# Altium schematic symbol library con-cypressindustries.SCHLIB: 38 symbols
Pins are listed as number, name and electrical type; pins without a type are passive.

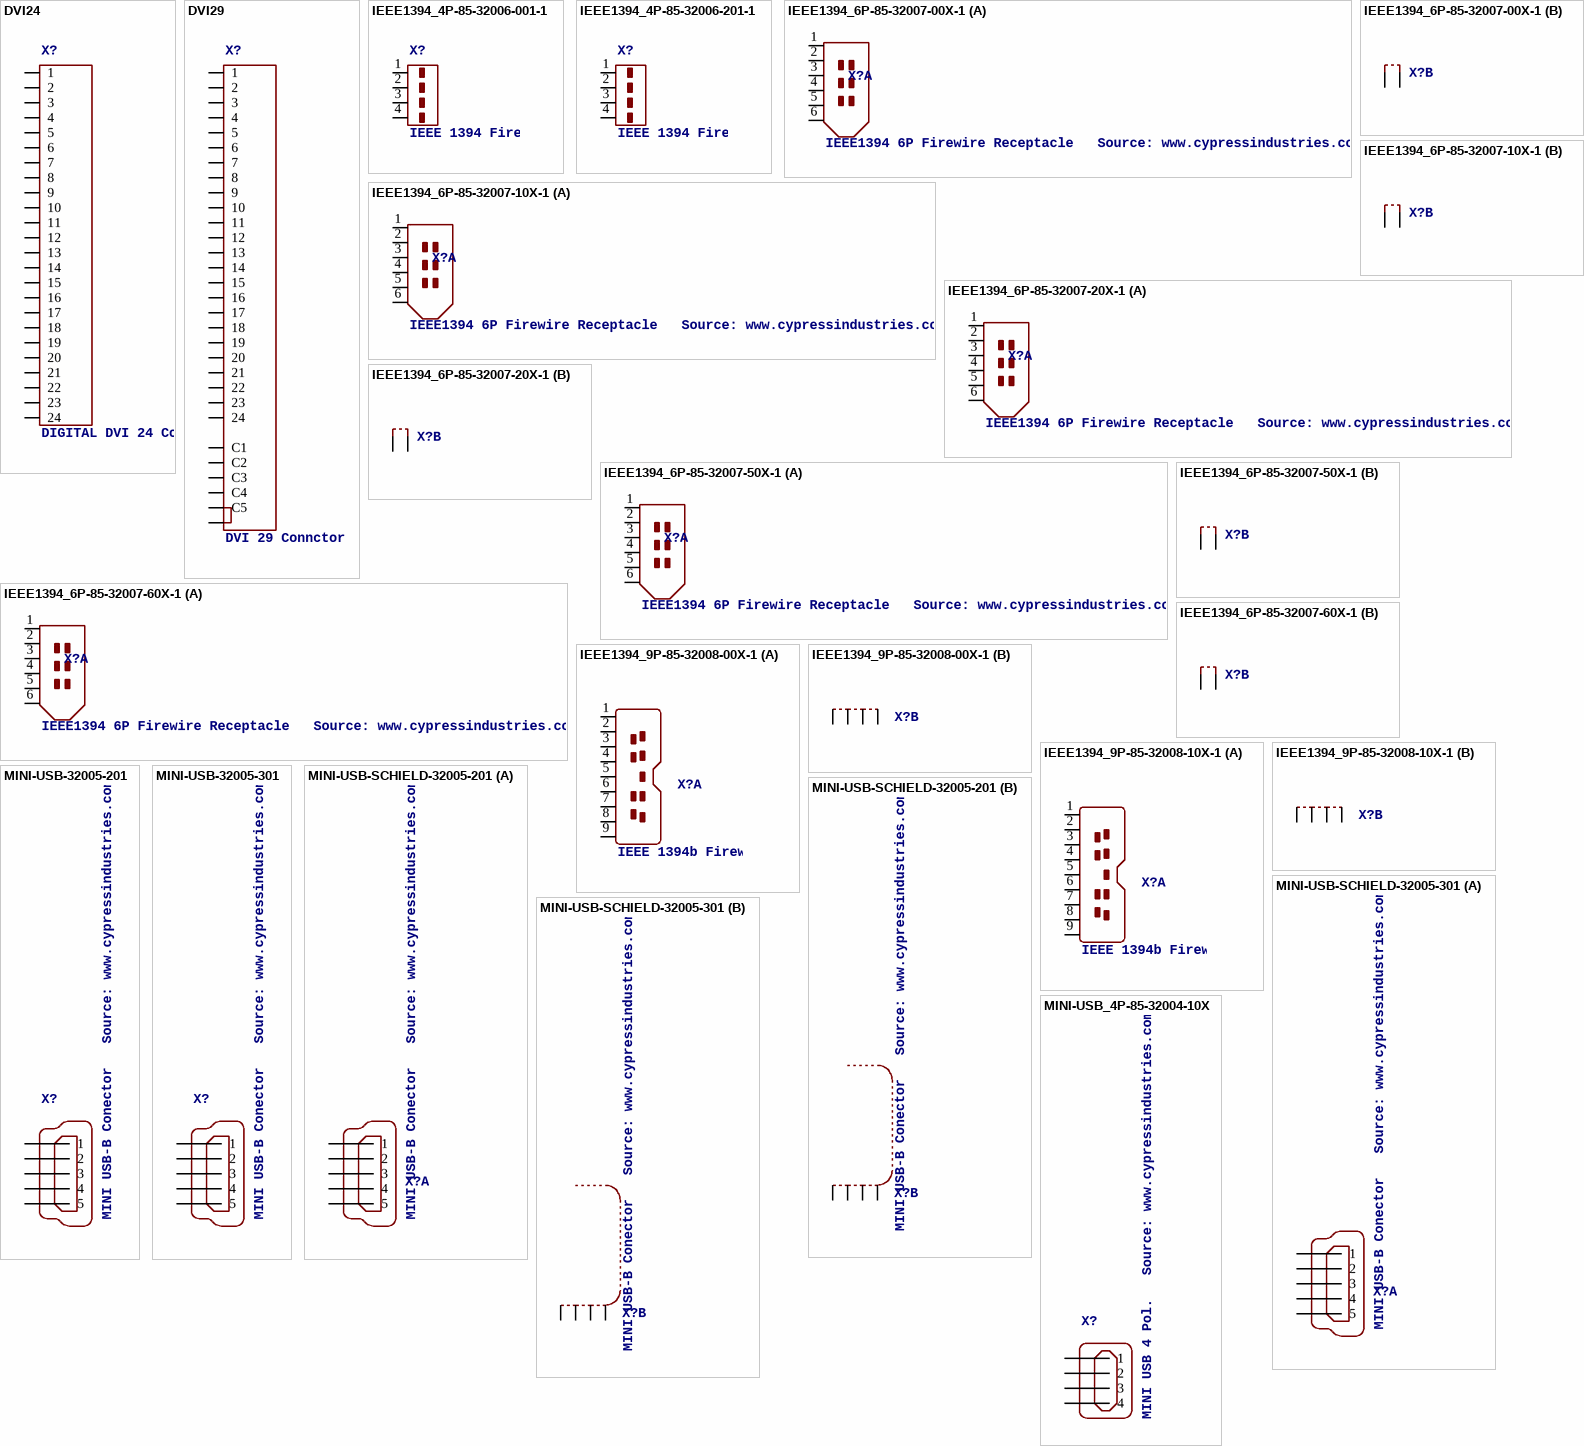
[diagram p0: symbols DVI24 to MINI-USB_4P-85-32004-10X]

## DVI24
designator X?, comment DIGITAL DVI 24 Connctor   Source: http://www.cypressindustries.com/pdf/CCDVI-24DVISD-DA3.pdf
MPN: DVI2425X; OC_FARNELL: unknown; OC_NEWARK: 95K3853
footprint CCDVI-24DVISD-DA3
pins: 1, 2, 3, 4, 5, 6, 7, 8, 9, 10, 11, 12, 13, 14, 15, 16, 17, 18, 19, 20, 21, 22, 23, 24

## DVI29
designator X?, comment DVI 29 Connctor   Source: http://www.cypressindustries.com/pdf/CCDVI-29DVISIR-A-2.pdf
OC_FARNELL: unknown; OC_NEWARK: unknown
footprint CCDVI-29DVISIR-A-2
pins: 1, 2, 3, 4, 5, 6, 7, 8, 9, 10, 11, 12, 13, 14, 15, 16, 17, 18, 19, 20, 21, 22, 23, 24, C1, C2, C3, C4, C5.1 C5, C5.2

## IEEE1394_4P-85-32006-001-1
designator X?, comment IEEE 1394 Firewire 4 pol.>p> Source: www.cypressindustries.com
OC_FARNELL: unknown; OC_NEWARK: unknown
footprint 85-32006-001-1
pins: 1, 2, 3, 4

## IEEE1394_4P-85-32006-201-1
designator X?, comment IEEE 1394 Firewire 4 pol.>p> Source: www.cypressindustries.com
OC_FARNELL: unknown; OC_NEWARK: unknown
footprint 85-32006-201-1
pins: 1, 2, 3, 4

## IEEE1394_6P-85-32007-00X-1
designator X?, comment IEEE1394 6P Firewire Receptacle   Source: www.cypressindustries.com
OC_FARNELL: unknown; OC_NEWARK: unknown
footprint 85-32007-00X-1
part A pins: 1, 2, 3, 4, 5, 6
part B pins: M1 S1, M2 S2

## IEEE1394_6P-85-32007-10X-1
designator X?, comment IEEE1394 6P Firewire Receptacle   Source: www.cypressindustries.com
OC_FARNELL: unknown; OC_NEWARK: unknown
footprint 85-32007-10X-1
part A pins: 1, 2, 3, 4, 5, 6
part B pins: M1 S1, M2 S2

## IEEE1394_6P-85-32007-20X-1
designator X?, comment IEEE1394 6P Firewire Receptacle   Source: www.cypressindustries.com
OC_FARNELL: unknown; OC_NEWARK: unknown
footprint 85-32007-20X-1
part A pins: 1, 2, 3, 4, 5, 6
part B pins: M1 S1, M2 S2

## IEEE1394_6P-85-32007-50X-1
designator X?, comment IEEE1394 6P Firewire Receptacle   Source: www.cypressindustries.com
OC_FARNELL: unknown; OC_NEWARK: unknown
footprint 85-32007-50X-1
part A pins: 1, 2, 3, 4, 5, 6
part B pins: M1 S1, M2 S2

## IEEE1394_6P-85-32007-60X-1
designator X?, comment IEEE1394 6P Firewire Receptacle   Source: www.cypressindustries.com
OC_FARNELL: unknown; OC_NEWARK: unknown
footprint 85-32007-60X-1
part A pins: 1, 2, 3, 4, 5, 6
part B pins: M1 S1, M2 S2

## IEEE1394_9P-85-32008-00X-1
designator X?, comment IEEE 1394b Firewire Connector Bilingual / Beta   Source: www.cypressindustries.com
OC_FARNELL: unknown; OC_NEWARK: unknown
footprint 85-32008-00X-1
part A pins: 1, 2, 3, 4, 5, 6, 7, 8, 9
part B pins: M1 S1, M2 S2, M3 S3, M4 S4

## IEEE1394_9P-85-32008-10X-1
designator X?, comment IEEE 1394b Firewire Connector Bilingual / Beta   Source: www.cypressindustries.com
OC_FARNELL: unknown; OC_NEWARK: unknown
footprint 85-32008-10X-1
part A pins: 1, 2, 3, 4, 5, 6, 7, 8, 9
part B pins: M1 S1, M2 S2, M3 S3, M4 S4

## MINI-USB-32005-201
designator X?, comment MINI USB-B Conector   Source: www.cypressindustries.com
OC_FARNELL: unknown; OC_NEWARK: unknown
footprint 32005-201
pins: 1, 2, 3, 4, 5

## MINI-USB-32005-301
designator X?, comment MINI USB-B Conector   Source: www.cypressindustries.com
OC_FARNELL: unknown; OC_NEWARK: unknown
footprint 32005-301
pins: 1, 2, 3, 4, 5

## MINI-USB-SCHIELD-32005-201
designator X?, comment MINI USB-B Conector   Source: www.cypressindustries.com
OC_FARNELL: unknown; OC_NEWARK: unknown
footprint 32005-201
part A pins: 1, 2, 3, 4, 5
part B pins: M1 S1, M2 S2, M3 S3, M4 S4

## MINI-USB-SCHIELD-32005-301
designator X?, comment MINI USB-B Conector   Source: www.cypressindustries.com
OC_FARNELL: unknown; OC_NEWARK: unknown
footprint 32005-301
part A pins: 1, 2, 3, 4, 5
part B pins: M1 S1, M2 S2, M3 S3, M4 S4

## MINI-USB_4P-85-32004-10X
designator X?, comment MINI USB 4 Pol.   Source: www.cypressindustries.com
OC_FARNELL: unknown; OC_NEWARK: unknown
footprint 85-32004-10X
pins: 1, 2, 3, 4

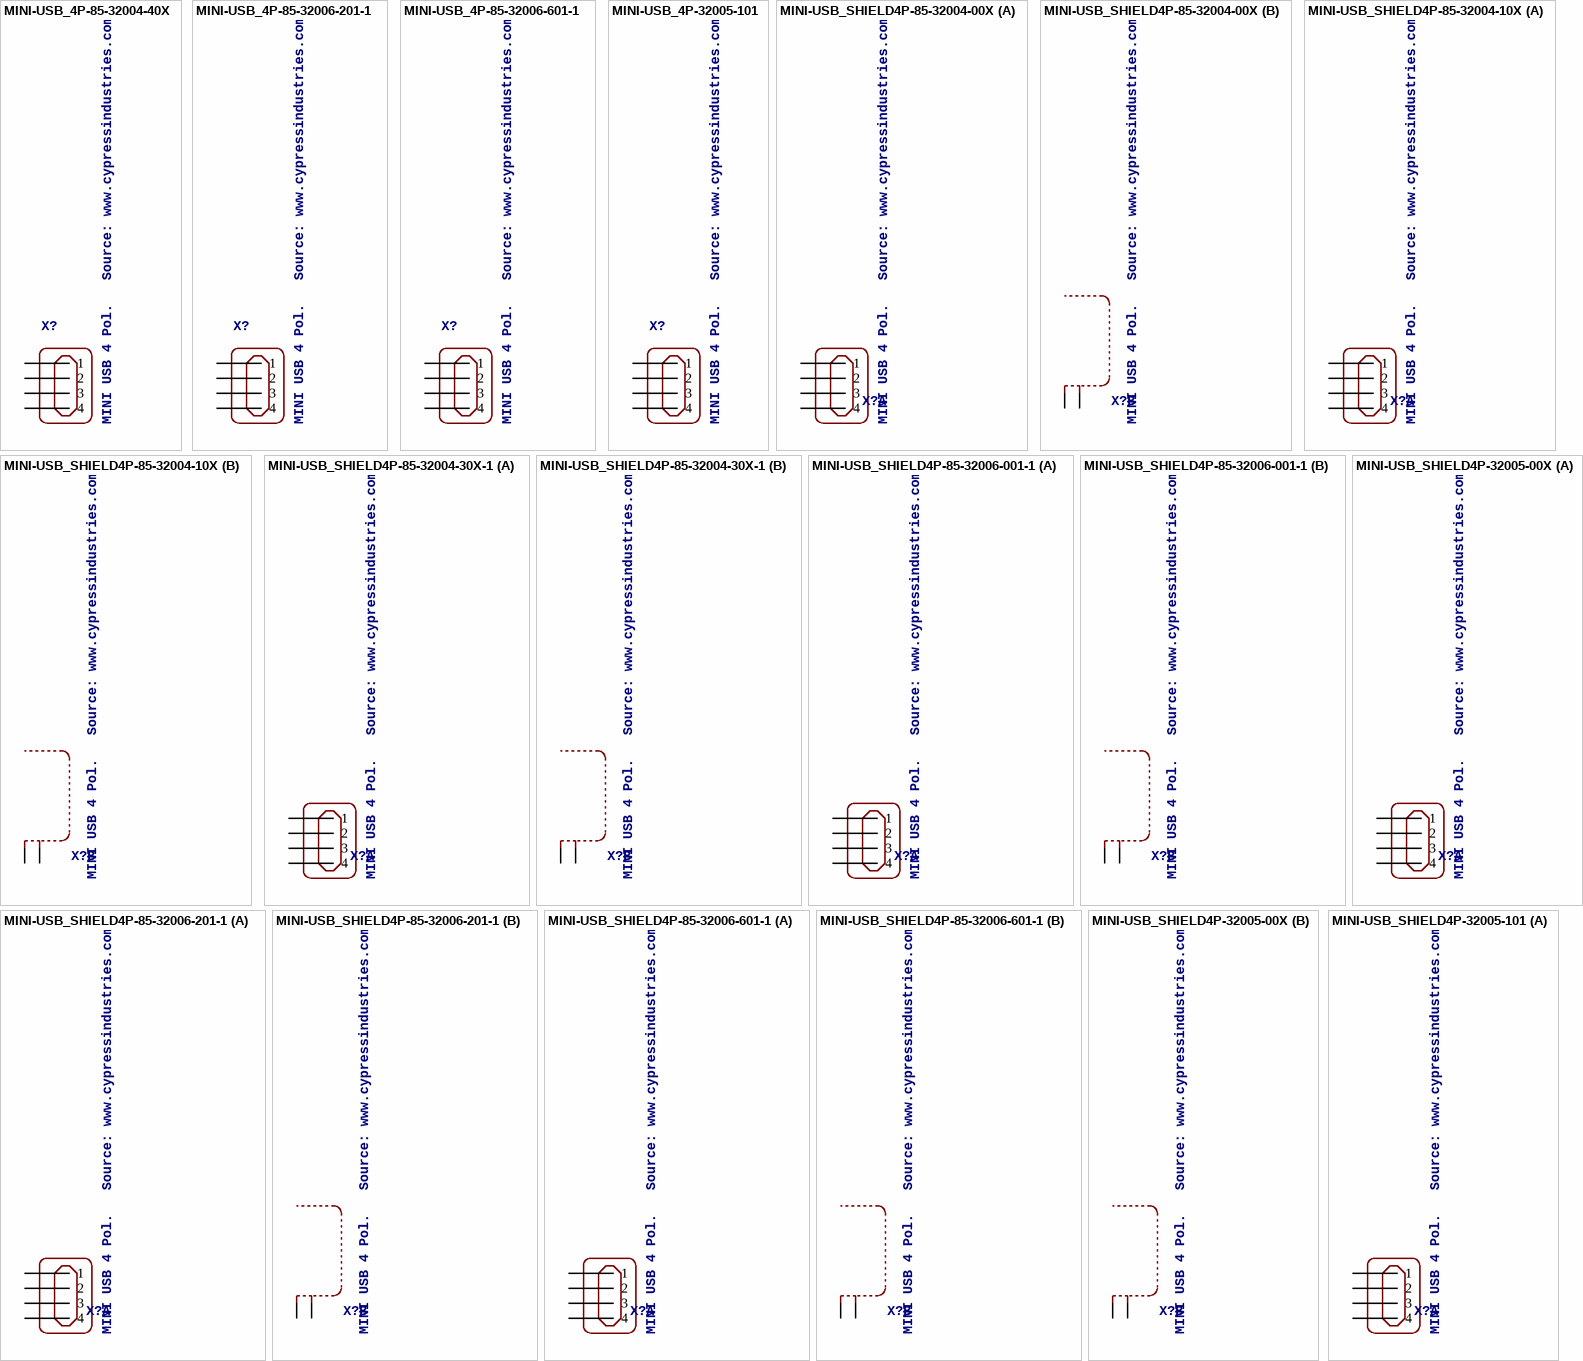
[diagram p1: symbols MINI-USB_4P-85-32004-40X to MINI-USB_SHIELD4P-32005-101]

## MINI-USB_4P-85-32004-40X
designator X?, comment MINI USB 4 Pol.   Source: www.cypressindustries.com
OC_FARNELL: unknown; OC_NEWARK: unknown
footprint 85-32004-40X
pins: 1, 2, 3, 4

## MINI-USB_4P-85-32006-201-1
designator X?, comment MINI USB 4 Pol.   Source: www.cypressindustries.com
OC_FARNELL: unknown; OC_NEWARK: unknown
footprint 85-32006-201-1
pins: 1, 2, 3, 4

## MINI-USB_4P-85-32006-601-1
designator X?, comment MINI USB 4 Pol.   Source: www.cypressindustries.com
OC_FARNELL: unknown; OC_NEWARK: unknown
footprint 85-32006-601-1
pins: 1, 2, 3, 4

## MINI-USB_4P-32005-101
designator X?, comment MINI USB 4 Pol.   Source: www.cypressindustries.com
OC_FARNELL: unknown; OC_NEWARK: unknown
footprint 32005-101
pins: 1, 2, 3, 4

## MINI-USB_SHIELD4P-85-32004-00X
designator X?, comment MINI USB 4 Pol.   Source: www.cypressindustries.com
OC_FARNELL: unknown; OC_NEWARK: unknown
footprint 85-32004-00X
part A pins: 1, 2, 3, 4
part B pins: M1 S1, M2 S2

## MINI-USB_SHIELD4P-85-32004-10X
designator X?, comment MINI USB 4 Pol.   Source: www.cypressindustries.com
OC_FARNELL: unknown; OC_NEWARK: unknown
footprint 85-32004-10X
part A pins: 1, 2, 3, 4
part B pins: M1 S1, M2 S2

## MINI-USB_SHIELD4P-85-32004-30X-1
designator X?, comment MINI USB 4 Pol.   Source: www.cypressindustries.com
OC_FARNELL: unknown; OC_NEWARK: unknown
footprint 85-32004-30X-1
part A pins: 1, 2, 3, 4
part B pins: M1 S1, M2 S2

## MINI-USB_SHIELD4P-85-32006-001-1
designator X?, comment MINI USB 4 Pol.   Source: www.cypressindustries.com
OC_FARNELL: unknown; OC_NEWARK: unknown
footprint 85-32006-001-1
part A pins: 1, 2, 3, 4
part B pins: M1 S1, M2 S2

## MINI-USB_SHIELD4P-85-32006-201-1
designator X?, comment MINI USB 4 Pol.   Source: www.cypressindustries.com
OC_FARNELL: unknown; OC_NEWARK: unknown
footprint 85-32006-201-1
part A pins: 1, 2, 3, 4
part B pins: M1 S1, M2 S2

## MINI-USB_SHIELD4P-85-32006-601-1
designator X?, comment MINI USB 4 Pol.   Source: www.cypressindustries.com
OC_FARNELL: unknown; OC_NEWARK: unknown
footprint 85-32006-601-1
part A pins: 1, 2, 3, 4
part B pins: M1 S1, M2 S2

## MINI-USB_SHIELD4P-32005-00X
designator X?, comment MINI USB 4 Pol.   Source: www.cypressindustries.com
OC_FARNELL: unknown; OC_NEWARK: unknown
footprint 32005-00X
part A pins: 1, 2, 3, 4
part B pins: M1 S1, M2 S2

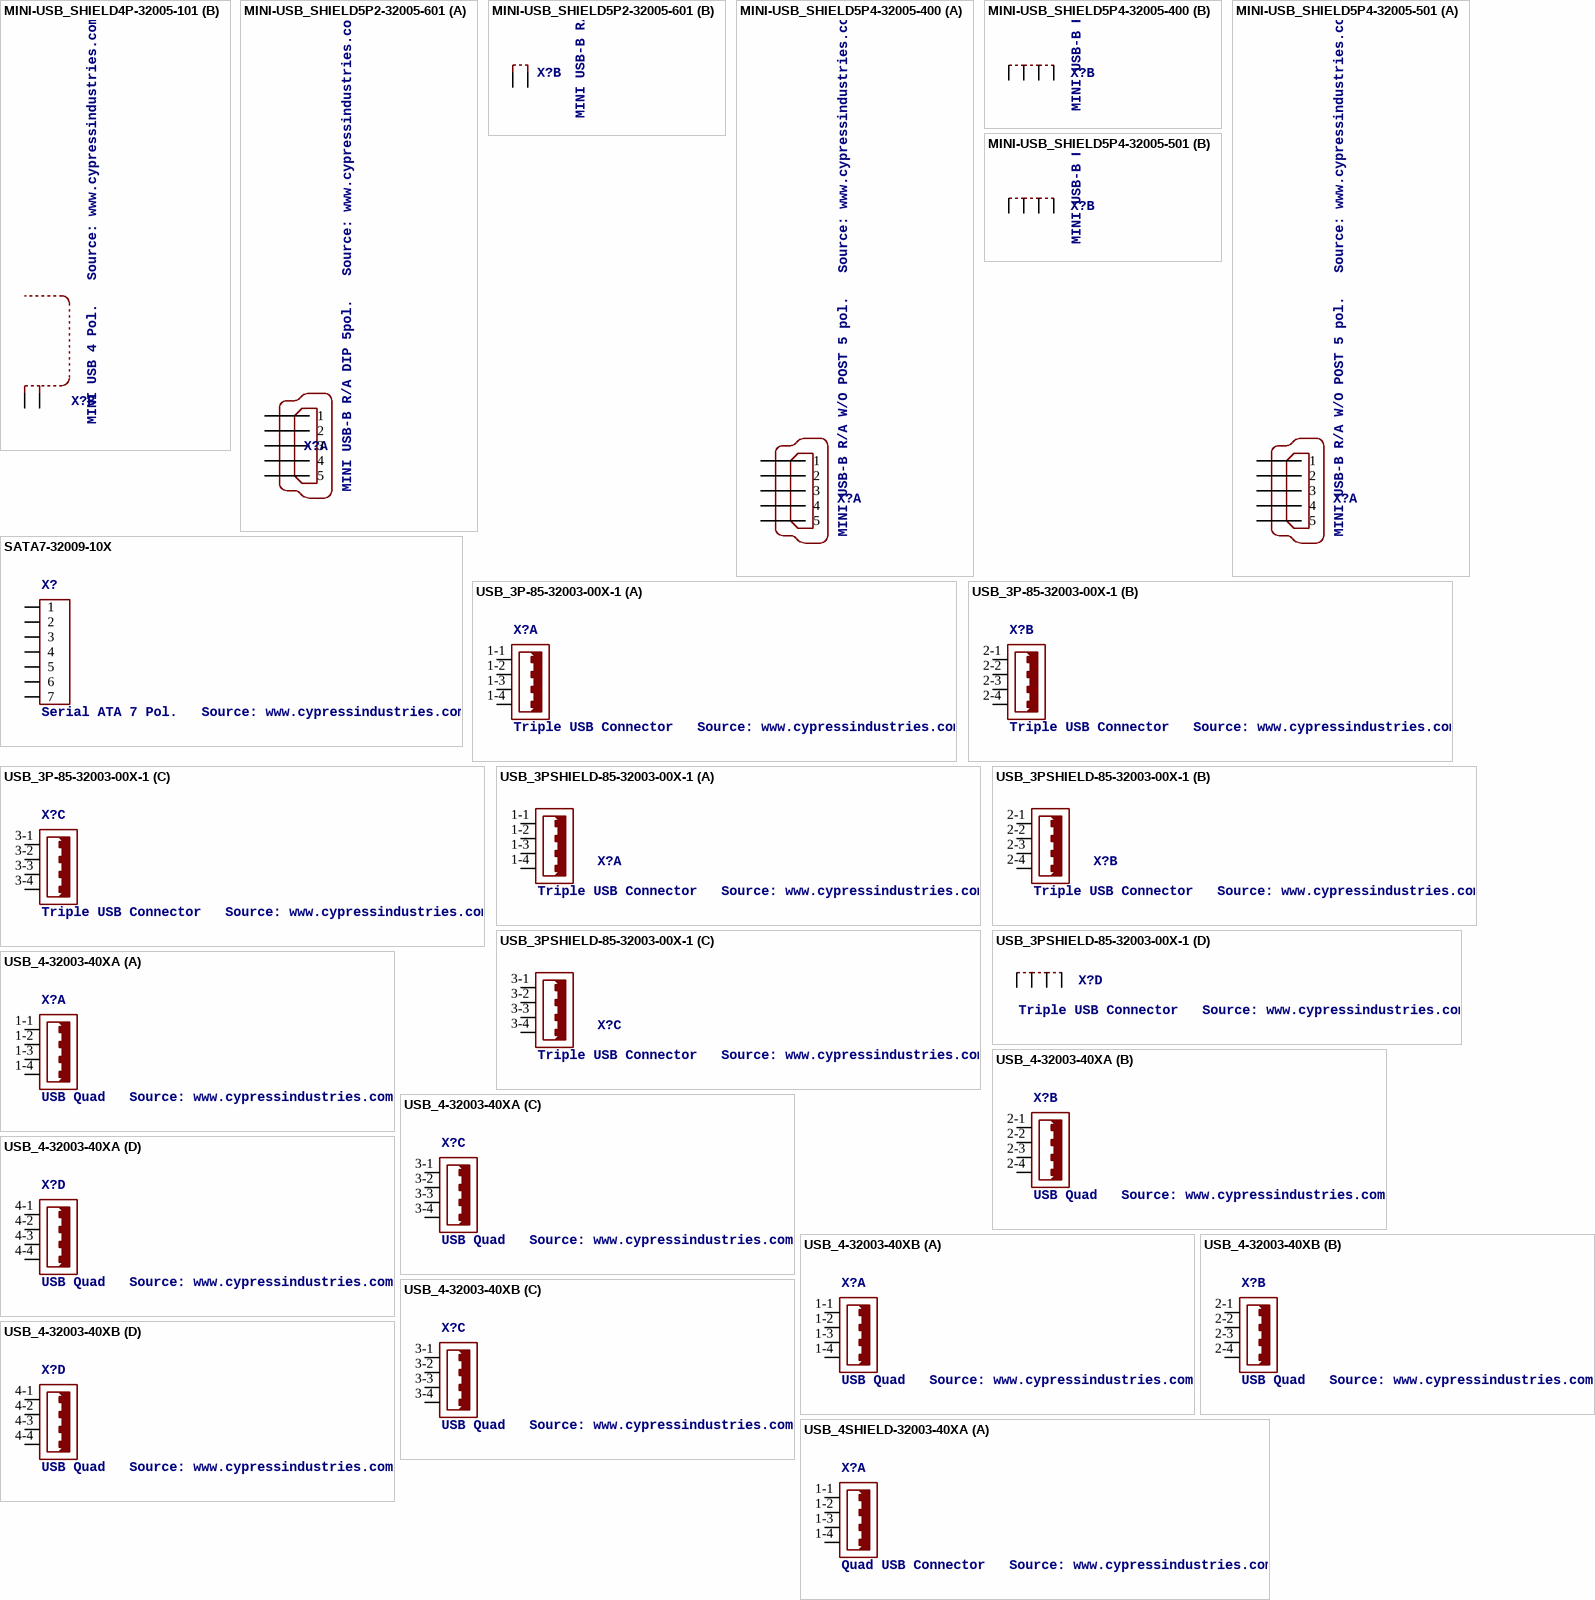
[diagram p2: symbols MINI-USB_SHIELD4P-32005-101 to USB_4SHIELD-32003-40XA]

## MINI-USB_SHIELD4P-32005-101
designator X?, comment MINI USB 4 Pol.   Source: www.cypressindustries.com
OC_FARNELL: unknown; OC_NEWARK: unknown
footprint 32005-101
part A pins: 1, 2, 3, 4
part B pins: M1 S1, M2 S2

## MINI-USB_SHIELD5P2-32005-601
designator X?, comment MINI USB-B R/A DIP 5pol.   Source: www.cypressindustries.com
OC_FARNELL: unknown; OC_NEWARK: unknown
footprint 32005-601
part A pins: 1, 2, 3, 4, 5
part B pins: M1 S1, M2 S2

## MINI-USB_SHIELD5P4-32005-400
designator X?, comment MINI USB-B R/A W/O POST 5 pol.   Source: www.cypressindustries.com
OC_FARNELL: unknown; OC_NEWARK: unknown
footprint 32005-400
part A pins: 1, 2, 3, 4, 5
part B pins: M1 S1, M2 S2, M3 S3, M4 S4

## MINI-USB_SHIELD5P4-32005-501
designator X?, comment MINI USB-B R/A W/O POST 5 pol.   Source: www.cypressindustries.com
OC_FARNELL: unknown; OC_NEWARK: unknown
footprint 32005-501
part A pins: 1, 2, 3, 4, 5
part B pins: M1 S1, M2 S2, M3 S3, M4 S4

## SATA7-32009-10X
designator X?, comment Serial ATA 7 Pol.   Source: www.cypressindustries.com
OC_FARNELL: unknown; OC_NEWARK: unknown
footprint CCATA_32009_10X
pins: 1, 2, 3, 4, 5, 6, 7

## USB_3P-85-32003-00X-1
designator X?, comment Triple USB Connector   Source: www.cypressindustries.com
OC_FARNELL: unknown; OC_NEWARK: unknown
footprint 85-32003-00X-1
part A pins: 1-1 1, 1-2 2, 1-3 3, 1-4 4
part B pins: 2-1 1, 2-2 2, 2-3 3, 2-4 4
part C pins: 3-1 1, 3-2 2, 3-3 3, 3-4 4

## USB_3PSHIELD-85-32003-00X-1
designator X?, comment Triple USB Connector   Source: www.cypressindustries.com
OC_FARNELL: unknown; OC_NEWARK: unknown
footprint 85-32003-00X-1
part A pins: 1-1 1, 1-2 2, 1-3 3, 1-4 4
part B pins: 2-1 1, 2-2 2, 2-3 3, 2-4 4
part C pins: 3-1 1, 3-2 2, 3-3 3, 3-4 4
part D pins: M1 S1, M2 S2, M3 S3, M4 S4

## USB_4-32003-40XA
designator X?, comment USB Quad   Source: www.cypressindustries.com
OC_FARNELL: unknown; OC_NEWARK: unknown
footprint 32003-40XA
part A pins: 1-1 1, 1-2 2, 1-3 3, 1-4 4
part B pins: 2-1 1, 2-2 2, 2-3 3, 2-4 4
part C pins: 3-1 1, 3-2 2, 3-3 3, 3-4 4
part D pins: 4-1 1, 4-2 2, 4-3 3, 4-4 4

## USB_4-32003-40XB
designator X?, comment USB Quad   Source: www.cypressindustries.com
OC_FARNELL: unknown; OC_NEWARK: unknown
footprint 32003-40XB
part A pins: 1-1 1, 1-2 2, 1-3 3, 1-4 4
part B pins: 2-1 1, 2-2 2, 2-3 3, 2-4 4
part C pins: 3-1 1, 3-2 2, 3-3 3, 3-4 4
part D pins: 4-1 1, 4-2 2, 4-3 3, 4-4 4

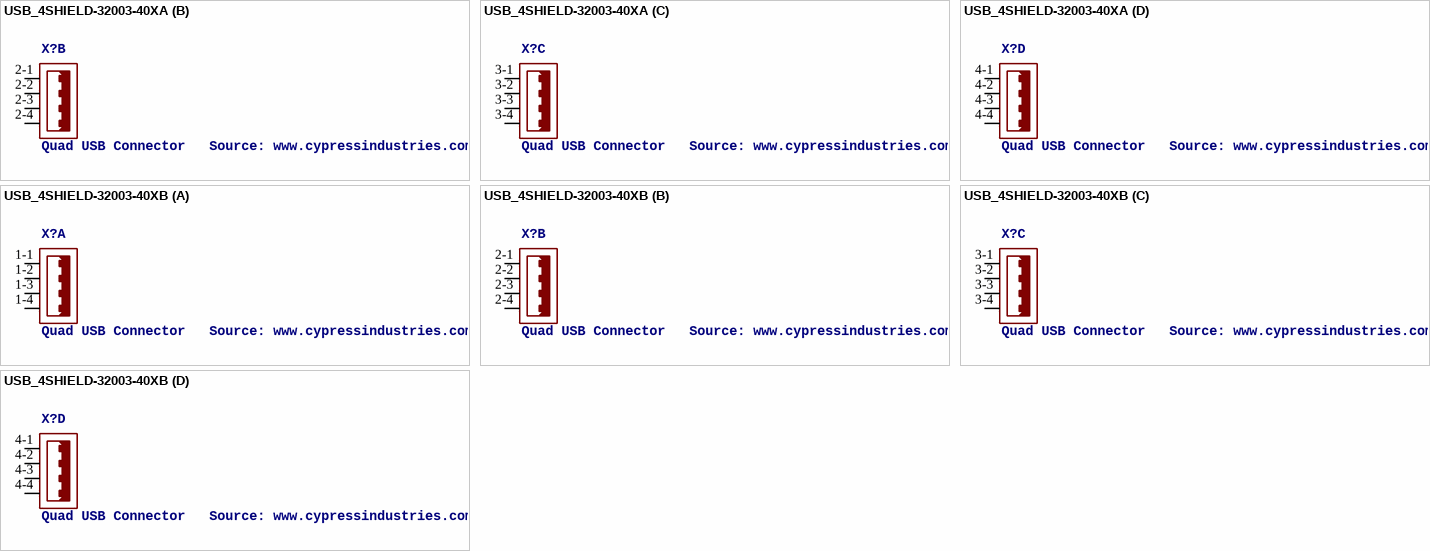
[diagram p3: symbols USB_4SHIELD-32003-40XA to USB_4SHIELD-32003-40XB]

## USB_4SHIELD-32003-40XA
designator X?, comment Quad USB Connector   Source: www.cypressindustries.com
OC_FARNELL: unknown; OC_NEWARK: unknown
footprint 32003-40XA
part A pins: 1-1 1, 1-2 2, 1-3 3, 1-4 4
part B pins: 2-1 1, 2-2 2, 2-3 3, 2-4 4
part C pins: 3-1 1, 3-2 2, 3-3 3, 3-4 4
part D pins: 4-1 1, 4-2 2, 4-3 3, 4-4 4

## USB_4SHIELD-32003-40XB
designator X?, comment Quad USB Connector   Source: www.cypressindustries.com
OC_FARNELL: unknown; OC_NEWARK: unknown
footprint 32003-40XB
part A pins: 1-1 1, 1-2 2, 1-3 3, 1-4 4
part B pins: 2-1 1, 2-2 2, 2-3 3, 2-4 4
part C pins: 3-1 1, 3-2 2, 3-3 3, 3-4 4
part D pins: 4-1 1, 4-2 2, 4-3 3, 4-4 4